# Altium footprint library ULN2003A.PcbLib: 4 footprints
Each footprint in its own frame and in the unit in brackets; x right, y up, seen from the top. Pads: shape width x height; smd on the part's side, far side on the other; paste and mask are expansions set on the pad; w line width, h text height; cw(c..) or ccw(c..) is an arc to the next point about the centre after c.
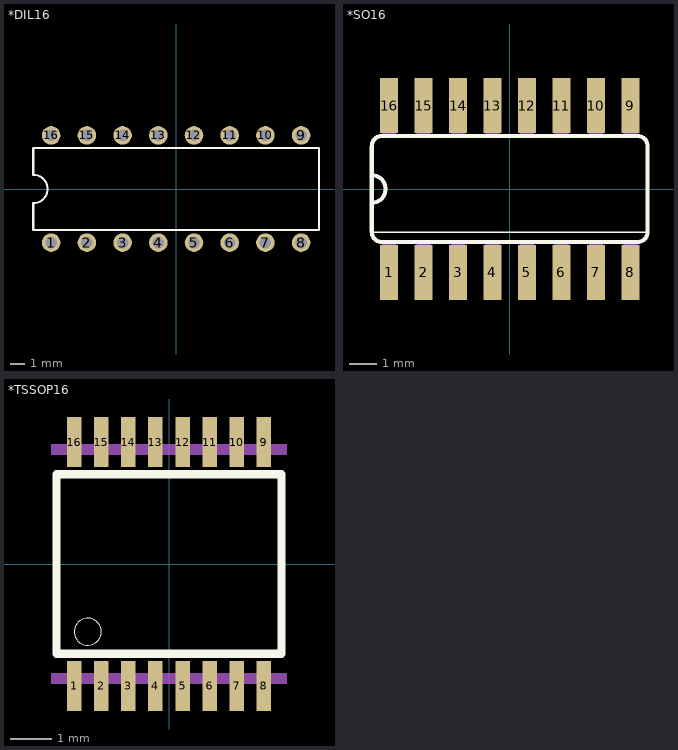
[diagram p0: the footprints below, top view; thin cyan lines are the x and y axes]

## *DIL16 [mil]
pads (16):
  round 52 hole 32: 1(-350,-150) 2(-250,-150) 3(-150,-150) 4(-50,-150) 5(50,-150) 6(150,-150) 7(250,-150) 8(350,-150) 9(350,150) 10(250,150) 11(150,150) 12(50,150) 13(-50,150) 14(-150,150) 15(-250,150) 16(-350,150)
Top Overlay:
  lines w6: -400,-115 -400,-40 ccw(c-400,0) -400,40 -400,115 400,115 400,-115 -400,-115

## *SO16 [mil]
pads (16):
  rect 26x80 smd: 1(-175,-121) 2(-125,-121) 3(-75,-121) 4(-25,-121) 5(25,-121) 6(75,-121) 7(125,-121) 8(175,-121) 9(175,121) 10(125,121) 11(75,121) 12(25,121) 13(-25,121) 14(-75,121) 15(-125,121) 16(-175,121)
Top Overlay:
  lines w2: -200,-63 200,-63
  lines w6: -200,-20 ccw(c-200,0) -200,20 ; -200,-20 -200,-62 ccw(c-185,-62) -185,-77 185,-77 ccw(c185,-62) 200,-62 200,62 ccw(c185,62) 185,77 -185,77 ccw(c-185,62) -200,62 -200,20 ; -200,-20 -200,20
Mechanical 4:
  region: 165,122 185,122 185,77 165,77
  region: 115,122 135,122 135,77 115,77
  region: 65,122 85,122 85,77 65,77
  region: 15,122 35,122 35,77 15,77
  region: 165,-77 185,-77 185,-122 165,-122
  region: 115,-77 135,-77 135,-122 115,-122
  region: 65,-77 85,-77 85,-122 65,-122
  region: 15,-77 35,-77 35,-122 15,-122
  region: -185,122 -165,122 -165,77 -185,77
  region: -135,122 -115,122 -115,77 -135,77
  region: -85,122 -65,122 -65,77 -85,77
  region: -35,-77 -15,-77 -15,-122 -35,-122
  region: -85,-76 -65,-76 -65,-121 -85,-121
  region: -135,-77 -115,-77 -115,-122 -135,-122
  region: -185,-77 -165,-77 -165,-122 -185,-122
  region: -35,122 -15,122 -15,77 -35,77
  region: 165,122 185,122 185,77 165,77
  region: 115,122 135,122 135,77 115,77
  region: 65,122 85,122 85,77 65,77
  region: 15,122 35,122 35,77 15,77
  region: 165,-77 185,-77 185,-122 165,-122
  region: 115,-77 135,-77 135,-122 115,-122
  region: 65,-77 85,-77 85,-122 65,-122
  region: 15,-77 35,-77 35,-122 15,-122
  region: -185,122 -165,122 -165,77 -185,77
  region: -135,122 -115,122 -115,77 -135,77
  region: -85,122 -65,122 -65,77 -85,77
  region: -35,-77 -15,-77 -15,-122 -35,-122
  region: -85,-76 -65,-76 -65,-121 -85,-121
  region: -135,-77 -115,-77 -115,-122 -135,-122
  region: -185,-77 -165,-77 -165,-122 -185,-122
  region: -35,122 -15,122 -15,77 -35,77

## *TSSOP16 [mm]
pads (16):
  rect 0.35x1.2 smd: 1(-2.275,-2.925) 2(-1.625,-2.925) 3(-0.975,-2.925) 4(-0.325,-2.925) 5(0.325,-2.925) 6(0.975,-2.925) 7(1.625,-2.925) 8(2.275,-2.925) 9(2.275,2.925) 10(1.625,2.925) 11(0.975,2.925) 12(0.325,2.925) 13(-0.325,2.925) 14(-0.975,2.925) 15(-1.625,2.925) 16(-2.275,2.925)
Top Overlay:
  circle w0: c-1.95,-1.625 r0.325
  lines w0.203: -2.7,-2.15 2.7,-2.15 2.7,2.15 -2.7,2.15 -2.7,-2.15
Top Solder:
  region: -2.5,3.6 -2.05,3.6 -2.05,2.25 -2.5,2.25
  region: -1.85,3.6 -1.4,3.6 -1.4,2.25 -1.85,2.25
  region: -1.2,3.6 -0.75,3.6 -0.75,2.25 -1.2,2.25
  region: -0.55,3.6 -0.1,3.6 -0.1,2.25 -0.55,2.25
  region: 0.1,3.6 0.55,3.6 0.55,2.25 0.1,2.25
  region: 0.75,3.6 1.2,3.6 1.2,2.25 0.75,2.25
  region: 1.4,3.6 1.85,3.6 1.85,2.25 1.4,2.25
  region: 2.05,3.6 2.5,3.6 2.5,2.25 2.05,2.25
  region: 2.05,-2.25 2.5,-2.25 2.5,-3.6 2.05,-3.6
  region: 1.4,-2.25 1.85,-2.25 1.85,-3.6 1.4,-3.6
  region: 0.75,-2.25 1.2,-2.25 1.2,-3.6 0.75,-3.6
  region: 0.1,-2.25 0.55,-2.25 0.55,-3.6 0.1,-3.6
  region: -0.55,-2.25 -0.1,-2.25 -0.1,-3.6 -0.55,-3.6
  region: -1.2,-2.25 -0.75,-2.25 -0.75,-3.6 -1.2,-3.6
  region: -1.85,-2.25 -1.4,-2.25 -1.4,-3.6 -1.85,-3.6
  region: -2.5,-2.25 -2.05,-2.25 -2.05,-3.6 -2.5,-3.6
Mechanical 4:
  region: -2.825,2.875 -1.725,2.875 -1.725,2.625 -2.825,2.625
  region: -2.175,2.875 -1.075,2.875 -1.075,2.625 -2.175,2.625
  region: -1.525,2.875 -0.425,2.875 -0.425,2.625 -1.525,2.625
  region: -0.875,2.875 0.225,2.875 0.225,2.625 -0.875,2.625
  region: -0.225,2.875 0.875,2.875 0.875,2.625 -0.225,2.625
  region: 0.425,2.875 1.525,2.875 1.525,2.625 0.425,2.625
  region: 1.075,2.875 2.175,2.875 2.175,2.625 1.075,2.625
  region: 1.725,2.875 2.825,2.875 2.825,2.625 1.725,2.625
  region: 1.725,-2.625 2.825,-2.625 2.825,-2.875 1.725,-2.875
  region: 1.075,-2.625 2.175,-2.625 2.175,-2.875 1.075,-2.875
  region: 0.425,-2.625 1.525,-2.625 1.525,-2.875 0.425,-2.875
  region: -0.225,-2.625 0.875,-2.625 0.875,-2.875 -0.225,-2.875
  region: -0.875,-2.625 0.225,-2.625 0.225,-2.875 -0.875,-2.875
  region: -1.525,-2.625 -0.425,-2.625 -0.425,-2.875 -1.525,-2.875
  region: -2.175,-2.625 -1.075,-2.625 -1.075,-2.875 -2.175,-2.875
  region: -2.825,-2.625 -1.725,-2.625 -1.725,-2.875 -2.825,-2.875
  region: -2.825,2.875 -1.725,2.875 -1.725,2.625 -2.825,2.625
  region: -2.175,2.875 -1.075,2.875 -1.075,2.625 -2.175,2.625
  region: -1.525,2.875 -0.425,2.875 -0.425,2.625 -1.525,2.625
  region: -0.875,2.875 0.225,2.875 0.225,2.625 -0.875,2.625
  region: -0.225,2.875 0.875,2.875 0.875,2.625 -0.225,2.625
  region: 0.425,2.875 1.525,2.875 1.525,2.625 0.425,2.625
  region: 1.075,2.875 2.175,2.875 2.175,2.625 1.075,2.625
  region: 1.725,2.875 2.825,2.875 2.825,2.625 1.725,2.625
  region: 1.725,-2.625 2.825,-2.625 2.825,-2.875 1.725,-2.875
  region: 1.075,-2.625 2.175,-2.625 2.175,-2.875 1.075,-2.875
  region: 0.425,-2.625 1.525,-2.625 1.525,-2.875 0.425,-2.875
  region: -0.225,-2.625 0.875,-2.625 0.875,-2.875 -0.225,-2.875
  region: -0.875,-2.625 0.225,-2.625 0.225,-2.875 -0.875,-2.875
  region: -1.525,-2.625 -0.425,-2.625 -0.425,-2.875 -1.525,-2.875
  region: -2.175,-2.625 -1.075,-2.625 -1.075,-2.875 -2.175,-2.875
  region: -2.825,-2.625 -1.725,-2.625 -1.725,-2.875 -2.825,-2.875

## PCBComponent_1 [mil]